# Altium footprint library SOT23-5.PcbLib: 1 footprints
Each footprint in its own frame and in the unit in brackets; x right, y up, seen from the top. Pads: shape width x height; smd on the part's side, far side on the other; paste and mask are expansions set on the pad; w line width, h text height; cw(c..) or ccw(c..) is an arc to the next point about the centre after c.
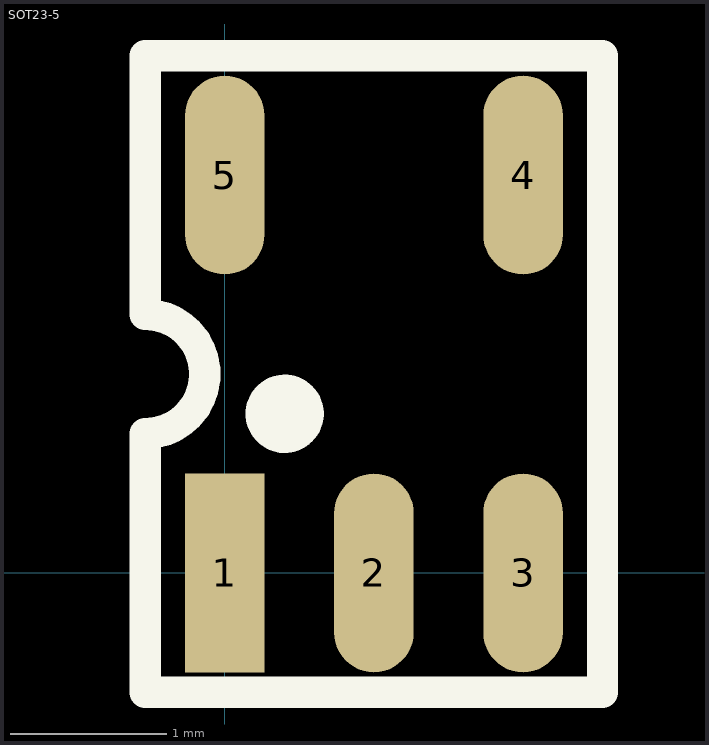
[diagram p0: the footprint, top view; thin cyan lines are the x and y axes]

## SOT23-5 [mil]
pads (5):
  rect 20x50 smd: 1(0,0)
  oval 20x50 smd: 2(37.5,0) 3(75,0) 4(75,100) 5(0,100)
Top Overlay:
  circle w9.84: c15.08,40 r4.92
  lines w7.87: -20,-30 -20,35 ccw(c-20,50) -20,65 -20,130 95,130 95,-30 -20,-30
3D body "CircuitWorks-SOT-23-5.step": height 41.34, standoff -1.97, extent -22.06,3.8 96.05,102.22